# EAGLE library part DSPIC33FJ24GS608 (library 0SBLib)
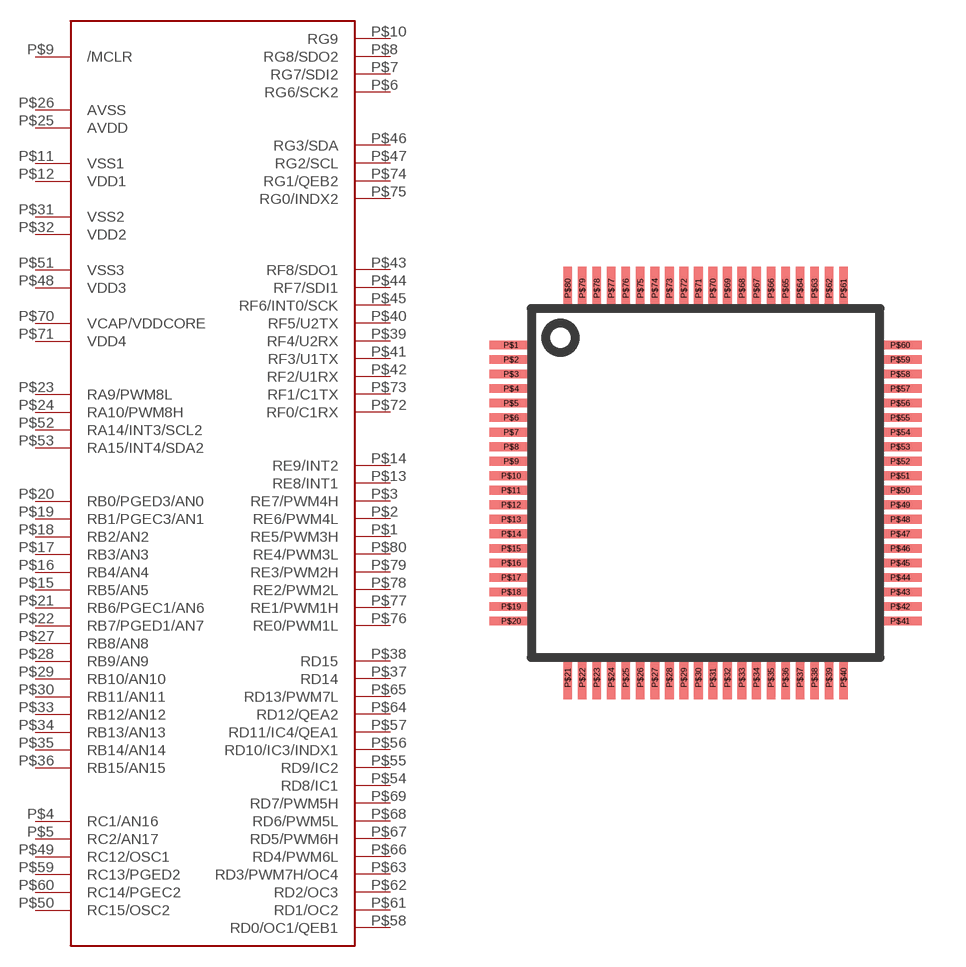
[diagram p27: symbol with the pads of TQFP-80; footprint TQFP-80]

Designator prefix -

## DSPIC33FJ24GS608TQFP-80  [TQFP-80]
P$1  RE5/PWM3H
P$2  RE6/PWM4L
P$3  RE7/PWM4H
P$4  RC1/AN16
P$5  RC2/AN17
P$6  RG6/SCK2
P$7  RG7/SDI2
P$8  RG8/SDO2
P$9  /MCLR
P$10  RG9
P$11  VSS1
P$12  VDD1
P$13  RE8/INT1
P$14  RE9/INT2
P$15  RB5/AN5
P$16  RB4/AN4
P$17  RB3/AN3
P$18  RB2/AN2
P$19  RB1/PGEC3/AN1
P$20  RB0/PGED3/AN0
P$21  RB6/PGEC1/AN6
P$22  RB7/PGED1/AN7
P$23  RA9/PWM8L
P$24  RA10/PWM8H
P$25  AVDD
P$26  AVSS
P$27  RB8/AN8
P$28  RB9/AN9
P$29  RB10/AN10
P$30  RB11/AN11
P$31  VSS2
P$32  VDD2
P$33  RB12/AN12
P$34  RB13/AN13
P$35  RB14/AN14
P$36  RB15/AN15
P$37  RD14
P$38  RD15
P$39  RF4/U2RX
P$40  RF5/U2TX
P$41  RF3/U1TX
P$42  RF2/U1RX
P$43  RF8/SDO1
P$44  RF7/SDI1
P$45  RF6/INT0/SCK
P$46  RG3/SDA
P$47  RG2/SCL
P$48  VDD3
P$49  RC12/OSC1
P$50  RC15/OSC2
P$51  VSS3
P$52  RA14/INT3/SCL2
P$53  RA15/INT4/SDA2
P$54  RD8/IC1
P$55  RD9/IC2
P$56  RD10/IC3/INDX1
P$57  RD11/IC4/QEA1
P$58  RD0/OC1/QEB1
P$59  RC13/PGED2
P$60  RC14/PGEC2
P$61  RD1/OC2
P$62  RD2/OC3
P$63  RD3/PWM7H/OC4
P$64  RD12/QEA2
P$65  RD13/PWM7L
P$66  RD4/PWM6L
P$67  RD5/PWM6H
P$68  RD6/PWM5L
P$69  RD7/PWM5H
P$70  VCAP/VDDCORE
P$71  VDD4
P$72  RF0/C1RX
P$73  RF1/C1TX
P$74  RG1/QEB2
P$75  RG0/INDX2
P$76  RE0/PWM1L
P$77  RE1/PWM1H
P$78  RE2/PWM2L
P$79  RE3/PWM2H
P$80  RE4/PWM3L

## Footprint TQFP-80 (pad centres in mm)
smd 1.5 x 0.3: P$1 -6.7,4.75; P$2 -6.7,4.25; P$3 -6.7,3.75; P$4 -6.7,3.25; P$5 -6.7,2.75; P$6 -6.7,2.25; P$7 -6.7,1.75; P$8 -6.7,1.25; P$9 -6.7,0.75; P$10 -6.7,0.25; P$11 -6.7,-0.25; P$12 -6.7,-0.75; P$13 -6.7,-1.25; P$14 -6.7,-1.75; P$15 -6.7,-2.25; P$16 -6.7,-2.75; P$17 -6.7,-3.25; P$18 -6.7,-3.75; P$19 -6.7,-4.25; P$20 -6.7,-4.75; P$41 6.7,-4.75; P$42 6.7,-4.25; P$43 6.7,-3.75; P$44 6.7,-3.25; P$45 6.7,-2.75; P$46 6.7,-2.25; P$47 6.7,-1.75; P$48 6.7,-1.25; P$49 6.7,-0.75; P$50 6.7,-0.25; P$51 6.7,0.25; P$52 6.7,0.75; P$53 6.7,1.25; P$54 6.7,1.75; P$55 6.7,2.25; P$56 6.7,2.75; P$57 6.7,3.25; P$58 6.7,3.75; P$59 6.7,4.25; P$60 6.7,4.75
smd 0.3 x 1.5: P$21 -4.75,-6.7; P$22 -4.25,-6.7; P$23 -3.75,-6.7; P$24 -3.25,-6.7; P$25 -2.75,-6.7; P$26 -2.25,-6.7; P$27 -1.75,-6.7; P$28 -1.25,-6.7; P$29 -0.75,-6.7; P$30 -0.25,-6.7; P$31 0.25,-6.7; P$32 0.75,-6.7; P$33 1.25,-6.7; P$34 1.75,-6.7; P$35 2.25,-6.7; P$36 2.75,-6.7; P$37 3.25,-6.7; P$38 3.75,-6.7; P$39 4.25,-6.7; P$40 4.75,-6.7; P$61 4.75,6.7; P$62 4.25,6.7; P$63 3.75,6.7; P$64 3.25,6.7; P$65 2.75,6.7; P$66 2.25,6.7; P$67 1.75,6.7; P$68 1.25,6.7; P$69 0.75,6.7; P$70 0.25,6.7; P$71 -0.25,6.7; P$72 -0.75,6.7; P$73 -1.25,6.7; P$74 -1.75,6.7; P$75 -2.25,6.7; P$76 -2.75,6.7; P$77 -3.25,6.7; P$78 -3.75,6.7; P$79 -4.25,6.7; P$80 -4.75,6.7